# Altium footprint library transistor.PcbLib: 4 footprints
Each footprint in its own frame and in the unit in brackets; x right, y up, seen from the top. Pads: shape width x height; smd on the part's side, far side on the other; paste and mask are expansions set on the pad; w line width, h text height; cw(c..) or ccw(c..) is an arc to the next point about the centre after c.
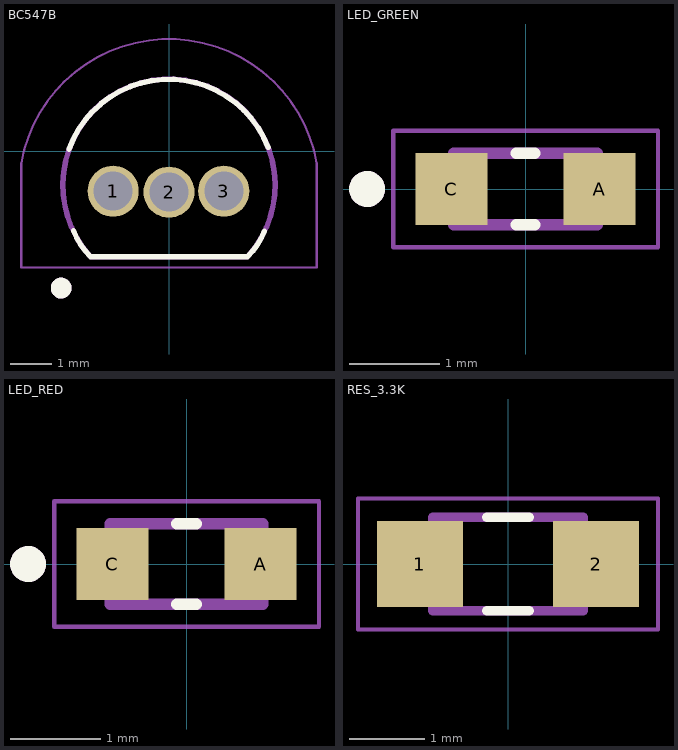
[diagram p0: the footprints below, top view; thin cyan lines are the x and y axes]

## BC547B [mil]
pads (3):
  round 48.51 hole 37.01: 1(-53,-38) 2(0,-38.88) 3(52,-38)
Top Overlay:
  circle w11.81: c-102.36,-129.92 r3.94
  lines w5: -94.86,1.83 cw(c-0.09,-32.66) 94.06,3.48 ; -90.6,-75.67 ccw(c-27.08,-51.29) -74.34,-100.23 ; -74.25,-100.31 74.25,-100.31 ; 74.29,-100.28 ccw(c27.06,-51.38) 90.53,-75.74
Mechanical 13:
  circle w11.81: c-102.36,-129.92 r3.94
  lines w5: -74.84,-99.66 cw(c0,-32.28) 74.84,-99.66 ; -74.25,-100.31 74.25,-100.31
Mechanical 15:
  lines w1.97: -140.16,-110.24 -140.16,-11.22 cw(c0,-35.93) 140.16,-11.22 140.16,-110.24 -140.16,-110.24
3D body "BC547A.STEP": height 220.24, standoff -490, extent -94.98,-132.44 94.98,12.45

## LED_GREEN [mm]
pads (2):
  rect 0.8x0.8 smd: A(0.825,0) C(-0.825,0)
Top Overlay:
  circle w0.2: c-1.765,0 r0.1
  lines w0.127: -0.105,-0.4 0.105,-0.4 ; -0.105,0.4 0.105,0.4
Mechanical 13:
  circle w0.2: c-1.765,0 r0.1
  lines w0.127: -0.8,-0.4 -0.8,0.4 0.8,0.4 0.8,-0.4 -0.8,-0.4
Mechanical 15:
  lines w0.05: -1.475,-0.65 -1.475,0.65 1.475,0.65 1.475,-0.65 -1.475,-0.65
3D body "step_temp.STEP": height 0.55, standoff 0, extent -0.8,-0.4 0.8,0.4

## LED_RED [mm]
pads (2):
  rect 0.8x0.8 smd: A(0.825,0) C(-0.825,0)
Top Overlay:
  circle w0.2: c-1.765,0 r0.1
  lines w0.127: -0.11,-0.45 0.11,-0.45 ; -0.11,0.45 0.11,0.45
Mechanical 13:
  circle w0.2: c-1.765,0 r0.1
  lines w0.127: -0.85,-0.45 0.85,-0.45 0.85,0.45 -0.85,0.45 -0.85,-0.45
Mechanical 15:
  lines w0.05: -1.475,-0.7 1.475,-0.7 1.475,0.7 -1.475,0.7 -1.475,-0.7

## RES_3.3K [mm]
pads (2):
  rect 1.15x1.15 smd: 1(-1.175,0) 2(1.175,0)
Top Overlay:
  lines w0.127: -0.28,-0.625 0.28,-0.625 ; -0.28,0.625 0.28,0.625
Mechanical 13:
  lines w0.127: -1,-0.625 1,-0.625 1,0.625 -1,0.625 -1,-0.625
Mechanical 15:
  lines w0.05: -2,-0.875 2,-0.875 2,0.875 -2,0.875 -2,-0.875
3D body "step_temp.STEP": height 0.6, standoff 0, extent -1,-0.625 1,0.625